# Altium schematic symbol library heat_sink.Schlib: 1 symbol
Pins are listed as number, name and electrical type; pins without a type are passive.

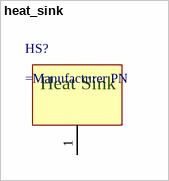
[diagram p0: symbol heat_sink]

## heat_sink
designator HS?
pins: 1 MNT
text: Heat Sink